# EAGLE library part KMDG-6S (library Digilent)
163-006: Mini Din, 6 pin, PS/2 keyboard
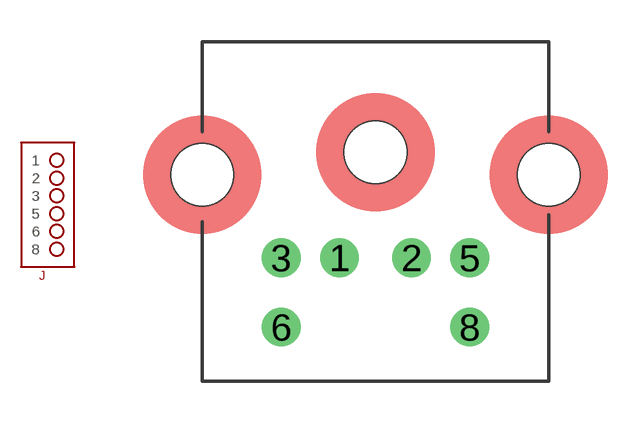
[diagram p21: symbol with the pads of KMDG-6S-BS; footprint KMDG-6S-BS]

Designator prefix J

## KMDG-6S  [KMDG-6S-BS]
1  1  pas
2  2  pas
3  3  pas
5  5  pas
6  6  pas
8  8  pas

## Footprint KMDG-6S-BS (pad centres in mm)
drill 0.889 round: 1 -1.3,-3.8; 2 1.3,-3.8; 3 -3.4,-3.8; 5 3.4,-3.8; 6 -3.4,-6.3; 8 3.4,-6.3
hole 2.261 at 0,0
hole 2.261 at 6.25,-0.8
hole 2.261 at -6.25,-0.8